# EAGLE library part 691322110006 (library Terminal_Blocks_Connectors_rev15e)
WR-TBL Serie 3221 - 3.50mm Horizontal PCB Header, 6 Pins =>Code : Con_TBL_Pluggable_3.50_PCB_H_691322110006 <http://katalog.we-online.de/media/images/eican/Con_TBL_Pluggable_3.50_PCB_H_6913221100xx_pf2.jpg> Details see: http://katalog.we-online.de/en/em/691_322_110_0xx Created 2014-06-18, Karrer Zheng 2014 (C) Würth Elektronik
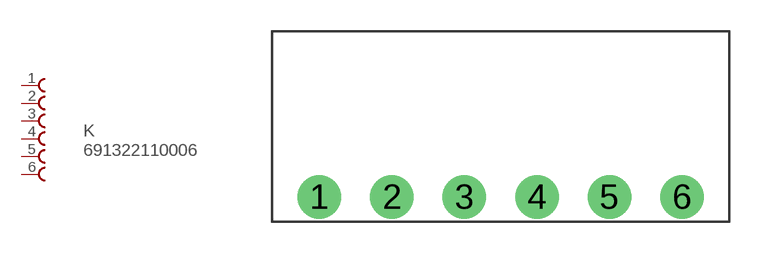
[diagram p1: symbol with the pads of 691322110006; footprint 691322110006]

Designator prefix K

## 691322110006  [691322110006]
1  1  pas
2  2  pas
3  3  pas
4  4  pas
5  5  pas
6  6  pas

## Footprint 691322110006 (pad centres in mm)
WR-TBL Serie 3221 - 3.50mm Horizontal PCB Header, 6 Pins
drill 1.4: 1 -8.75,0; 2 -5.25,0; 3 -1.75,0; 4 1.75,0; 5 5.25,0; 6 8.75,0